# Altium footprint library powerSupply.PcbLib: 8 footprints
Each footprint in its own frame and in the unit in brackets; x right, y up, seen from the top. Pads: shape width x height; smd on the part's side, far side on the other; paste and mask are expansions set on the pad; w line width, h text height; cw(c..) or ccw(c..) is an arc to the next point about the centre after c.
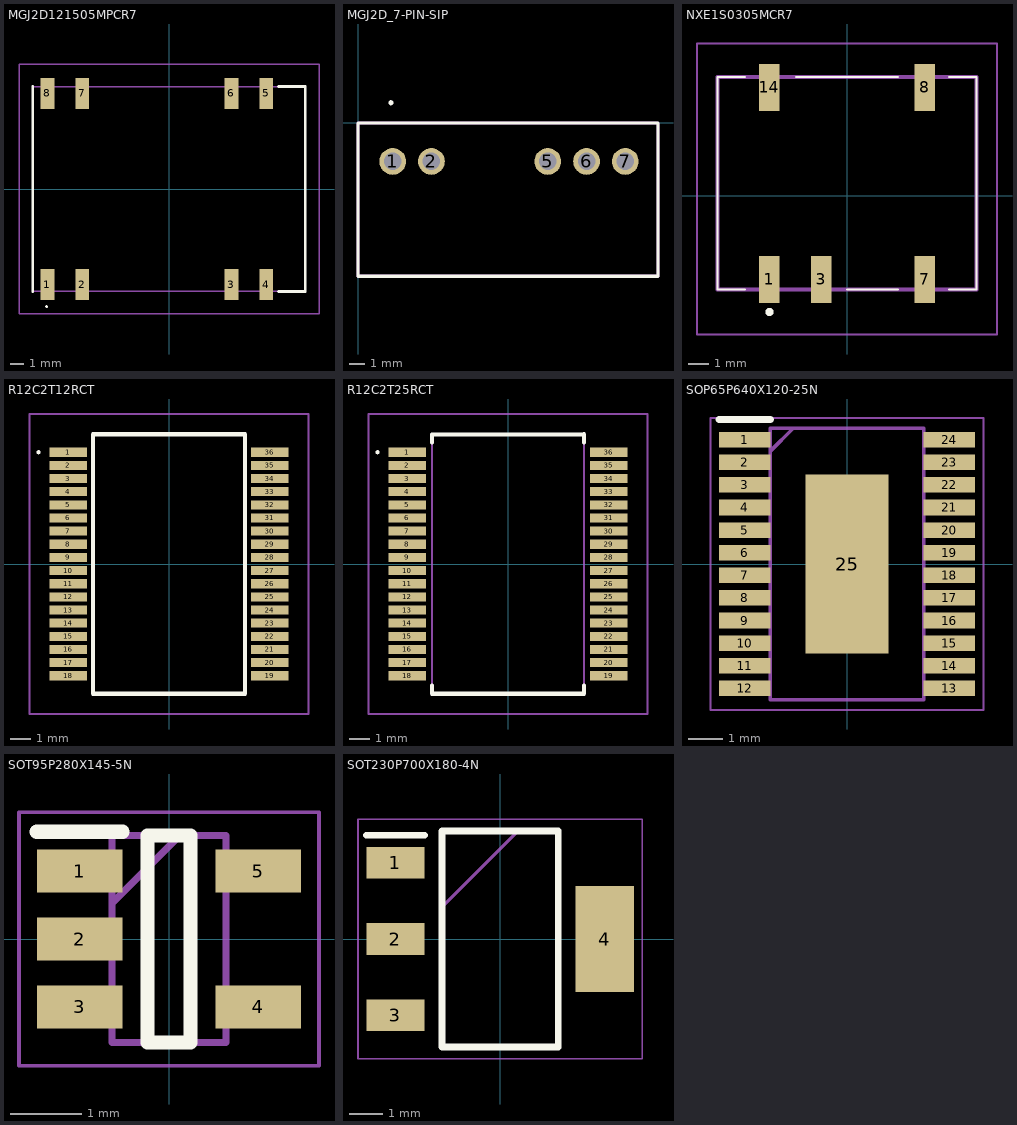
[diagram p0: the footprints below, top view; thin cyan lines are the x and y axes]

## MGJ2D121505MPCR7 [mm]
pads (8):
  rect 1x2.3 smd: 1(-8.89,-6.985) 2(-6.35,-6.985) 3(4.57,-6.985) 4(7.11,-6.985) 5(7.11,6.985) 6(4.57,6.985) 7(-6.35,6.985) 8(-8.89,6.985)
Top Overlay:
  lines w0.1: -9,-8.6 ccw(c-8.95,-8.6) -8.9,-8.6 ccw(c-8.95,-8.6) -9,-8.6
  lines w0.2: -9.97,-7.495 -9.97,7.495 ; 8,-7.495 9.97,-7.495 9.97,7.495 8,7.495
Mechanical 13:
  lines w0.1: -9.97,-7.495 9.97,-7.495 9.97,7.495 -9.97,7.495 -9.97,-7.495
Mechanical 15:
  lines w0.1: -10.97,-9.135 10.97,-9.135 10.97,9.135 -10.97,9.135 -10.97,-9.135
3D body "MGJ2D121505MPC-R7.stp": height 4.38, standoff 0, extent -9.97,-7.495 9.97,7.495

## MGJ2D_7-PIN-SIP [mm]
pads (5):
  round 1.75 hole 1.15: 1(2.27,-2.53) 2(4.81,-2.53) 5(12.43,-2.53) 6(14.97,-2.53) 7(17.51,-2.53)
Top Overlay:
  circle w0.2: c2.162,1.316 r0.067
  lines w0.2: 0,-10.05 19.65,-10.05 19.65,0 0,0 0,-10.05
Mechanical 13:
  lines w0.2: 0,-10.05 0,0 19.65,0 19.65,-10.05 0,-10.05
3D body "MGJ2D121505SC.stp": height 13.03, standoff -3.57, extent 0.08,-9.82 19.58,0

## NXE1S0305MCR7 [mm]
pads (5):
  rect 1x2.3 smd: 1(-3.81,-4.103) 3(-1.27,-4.103) 7(3.81,-4.103) 8(3.81,5.298) 14(-3.81,5.298)
Top Overlay:
  lines w0.1: -5,-4.607 -6.35,-4.607 -6.35,5.803 -5,5.803 ; -2.5,5.803 2.5,5.803 ; 0,-4.607 2.5,-4.607 ; 5,-4.607 6.35,-4.607 6.35,5.803 5,5.803
  lines w0.2: -3.9,-5.703 cw(c-3.8,-5.703) -3.7,-5.703 cw(c-3.8,-5.703) -3.9,-5.703
Mechanical 13:
  lines w0.2: -6.35,-4.607 6.35,-4.607 6.35,5.803 -6.35,5.803 -6.35,-4.607
Mechanical 15:
  lines w0.1: -7.35,-6.803 7.35,-6.803 7.35,7.448 -7.35,7.448 -7.35,-6.803
3D body "NXE1S0305MC-R7.stp": height 4.1, standoff 0, extent -6.35,-5.153 6.35,6.348

## R12C2T12RCT [mm]
pads (36):
  rect 1.85x0.45 smd: 1(-4.975,5.525) 2(-4.975,4.875) 3(-4.975,4.225) 4(-4.975,3.575) 5(-4.975,2.925) 6(-4.975,2.275) 7(-4.975,1.625) 8(-4.975,0.975) 9(-4.975,0.325) 10(-4.975,-0.325) 11(-4.975,-0.975) 12(-4.975,-1.625) 13(-4.975,-2.275) 14(-4.975,-2.925) 15(-4.975,-3.575) 16(-4.975,-4.225) 17(-4.975,-4.875) 18(-4.975,-5.525) 19(4.975,-5.525) 20(4.975,-4.875) 21(4.975,-4.225) 22(4.975,-3.575) 23(4.975,-2.925) 24(4.975,-2.275) 25(4.975,-1.625) 26(4.975,-0.975) 27(4.975,-0.325) 28(4.975,0.325) 29(4.975,0.975) 30(4.975,1.625) 31(4.975,2.275) 32(4.975,2.925) 33(4.975,3.575) 34(4.975,4.225) 35(4.975,4.875) 36(4.975,5.525)
Top Overlay:
  lines w0.1: -6.5,5.525 ccw(c-6.45,5.525) -6.4,5.525 ccw(c-6.45,5.525) -6.5,5.525
  lines w0.2: -3.75,-6.415 -3.75,6.415 3.75,6.415 3.75,-6.415 -3.75,-6.415
Mechanical 13:
  lines w0.1: -3.75,-6.415 -3.75,6.415 3.75,6.415 3.75,-6.415 -3.75,-6.415
Mechanical 15:
  lines w0.1: -6.9,-7.415 -6.9,7.415 6.9,7.415 6.9,-7.415 -6.9,-7.415
3D body "R12C2T12_R-CT.stp": height 3.55, standoff 0, extent -5.15,-6.415 5.15,6.415

## R12C2T25RCT [mm]
pads (36):
  rect 1.85x0.45 smd: 1(-4.975,5.525) 2(-4.975,4.875) 3(-4.975,4.225) 4(-4.975,3.575) 5(-4.975,2.925) 6(-4.975,2.275) 7(-4.975,1.625) 8(-4.975,0.975) 9(-4.975,0.325) 10(-4.975,-0.325) 11(-4.975,-0.975) 12(-4.975,-1.625) 13(-4.975,-2.275) 14(-4.975,-2.925) 15(-4.975,-3.575) 16(-4.975,-4.225) 17(-4.975,-4.875) 18(-4.975,-5.525) 19(4.975,-5.525) 20(4.975,-4.875) 21(4.975,-4.225) 22(4.975,-3.575) 23(4.975,-2.925) 24(4.975,-2.275) 25(4.975,-1.625) 26(4.975,-0.975) 27(4.975,-0.325) 28(4.975,0.325) 29(4.975,0.975) 30(4.975,1.625) 31(4.975,2.275) 32(4.975,2.925) 33(4.975,3.575) 34(4.975,4.225) 35(4.975,4.875) 36(4.975,5.525)
Top Overlay:
  lines w0.1: -6.5,5.525 ccw(c-6.45,5.525) -6.4,5.525 ccw(c-6.45,5.525) -6.5,5.525
  lines w0.2: -3.75,-6 -3.75,-6.415 3.75,-6.415 3.75,-6 ; -3.75,6 -3.75,6.4 3.75,6.415 3.75,6
Mechanical 13:
  lines w0.1: -3.75,-6.415 -3.75,6.415 3.75,6.415 3.75,-6.415 -3.75,-6.415
Mechanical 15:
  lines w0.1: -6.9,-7.415 -6.9,7.415 6.9,7.415 6.9,-7.415 -6.9,-7.415

## SOP65P640X120-25N [mm]
pads (25):
  rect 1.475x0.45 smd: 1(-2.938,3.575) 2(-2.938,2.925) 3(-2.938,2.275) 4(-2.938,1.625) 5(-2.938,0.975) 6(-2.938,0.325) 7(-2.938,-0.325) 8(-2.938,-0.975) 9(-2.938,-1.625) 10(-2.938,-2.275) 11(-2.938,-2.925) 12(-2.938,-3.575) 13(2.938,-3.575) 14(2.938,-2.925) 15(2.938,-2.275) 16(2.938,-1.625) 17(2.938,-0.975) 18(2.938,-0.325) 19(2.938,0.325) 20(2.938,0.975) 21(2.938,1.625) 22(2.938,2.275) 23(2.938,2.925) 24(2.938,3.575)
  rect 2.4x5.16 smd: 25(0,0)
Top Overlay:
  lines w0.2: -3.675,4.15 -2.2,4.15
Mechanical 13:
  lines w0.1: -2.2,3.25 -1.55,3.9 ; -2.2,-3.9 -2.2,3.9 2.2,3.9 2.2,-3.9 -2.2,-3.9
Mechanical 15:
  lines w0.05: -3.925,-4.2 -3.925,4.2 3.925,4.2 3.925,-4.2 -3.925,-4.2
3D body "TPS65301QPWPRQ1.stp": height 1, standoff 0, extent -3.21,-3.9 3.21,3.9

## SOT95P280X145-5N [mm]
pads (5):
  rect 1.2x0.6 smd: 1(-1.25,0.95) 2(-1.25,0) 3(-1.25,-0.95) 4(1.25,-0.95) 5(1.25,0.95)
Top Overlay:
  lines w0.2: -1.85,1.5 -0.65,1.5 ; -0.3,-1.45 -0.3,1.45 0.3,1.45 0.3,-1.45 -0.3,-1.45
Mechanical 13:
  lines w0.1: -0.8,0.5 0.15,1.45 ; -0.8,-1.45 -0.8,1.45 0.8,1.45 0.8,-1.45 -0.8,-1.45
Mechanical 15:
  lines w0.05: -2.1,-1.775 -2.1,1.775 2.1,1.775 2.1,-1.775 -2.1,-1.775
3D body "SN6501QDBVRQ1.stp": height 1.2, standoff 0, extent -1.4,-1.45 1.4,1.45

## SOT230P700X180-4N [mm]
pads (4):
  rect 1.75x0.95 smd: 1(-3.15,2.3) 2(-3.15,0) 3(-3.15,-2.3)
  rect 1.75x3.2 smd: 4(3.15,0)
Top Overlay:
  lines w0.2: -4.025,3.125 -2.275,3.125 ; -1.75,-3.25 1.75,-3.25 1.75,3.25 -1.75,3.25 -1.75,-3.25
Mechanical 13:
  lines w0.1: -1.75,0.95 0.55,3.25 ; -1.75,-3.25 1.75,-3.25 1.75,3.25 -1.75,3.25 -1.75,-3.25
Mechanical 15:
  lines w0.05: -4.275,-3.6 4.275,-3.6 4.275,3.6 -4.275,3.6 -4.275,-3.6
3D body "TPS7B8350QDCYRQ1.stp": height 1.68, standoff 0, extent -3.5,-3.25 3.5,3.25